# Altium schematic symbol library MF-TRANSISTORS.SchLib: 5 symbols
Pins are listed as number, name and electrical type; pins without a type are passive.

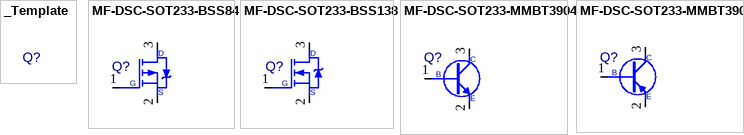
[diagram p0: symbols _Template to MF-DSC-SOT233-MMBT3906]

## _Template
designator Q?  (value not drawn)
Type: *; Operating Temperature Range: *; Continous Drain Current (Id): *; Power Rating: *; RoHS: *; Drain-Source Voltage (Vds): *; Drain-Source Resistance (Rds ON): *; Package: *; ComponentLink1Description: Datasheet; ComponentLink1URL: *; ComponentLink2Description: Supplier Link 1; ComponentLink2URL: *; Supplier 1: Macrofab; Supplier Part Number 1: *; Manufacturer 1: *; Manufacturer Part Number 1: *; Gate-Source Voltage (Vgs): *; Transistor Polarity: *

## MF-DSC-SOT233-BSS84
designator Q?  (value not drawn)
Mosfet SOT-23-3 P-Channel Logic Level; Manufacturer 1: Nexperia; Manufacturer Part Number 1: BSS84,215; Type: General Purpose Logic Level FET; Continous Drain Current (Id): 130mA; Power Rating: 250 mW; Drain-Source Voltage (Vds): -50V; Drain-Source Resistance (Rds ON): 6 Ohms; Gate-Source Voltage (Vgs): 20V; Operating Temperature Range: - 55 C to + 150 C; RoHS: Compliant; Package: SOT-23-3; ComponentLink1Description: Datasheet; ComponentLink1URL: https://s3.amazonaws.com/devpublic1/datasheets/BSS84-351729.pdf; ComponentLink2Description: Supplier Link 1; ComponentLink2URL: https://factory.macrofab.com/part/MF-DSC-SOT233-BSS84; Supplier 1: Macrofab; Supplier Part Number 1: MF-DSC-SOT233-BSS84; Transistor Polarity: P-Channel
footprint SOT-23-3 (SOT23, 3-Leads, Body 2.90x2.35mm, Pitch 0.95mm, IPC Medium Density)
pins: 1 G "Gate", 2 S "Source", 3 D "Drain"

## MF-DSC-SOT233-BSS138
designator Q?  (value not drawn)
Mosfet SOT-23-3 N-Channel Logic Level; Manufacturer 1: Onsemi; Manufacturer Part Number 1: BSS138; Type: General Purpose Logic Level FET; Continous Drain Current (Id): 220mA; Power Rating: 360 mW; Drain-Source Voltage (Vds): 50V; Drain-Source Resistance (Rds ON): 3.5 Ohms; Gate-Source Voltage (Vgs): 20V; Operating Temperature Range: - 55 C to + 150 C; RoHS: Compliant; Package: SOT-23-3; ComponentLink1Description: Datasheet; ComponentLink1URL: https://s3.amazonaws.com/devpublic1/datasheets/BSS138-39381.pdf; ComponentLink2Description: Supplier Link 1; ComponentLink2URL: https://factory.macrofab.com/part/MF-DSC-SOT233-BSS138; Supplier 1: Macrofab; Supplier Part Number 1: MF-DSC-SOT233-BSS138; Transistor Polarity: N-Channel
footprint SOT-23-3 (SOT23, 3-Leads, Body 2.90x2.35mm, Pitch 0.95mm, IPC Medium Density)
pins: 1 G "Gate", 2 S "Source", 3 D "Drain"

## MF-DSC-SOT233-MMBT3904
designator Q?  (value not drawn)
BJT Transistor SOT-23-3 NPN General Purpose; Manufacturer 1: Onsemi; Manufacturer Part Number 1: MMBT3904L; Type: General Purpose Transistors BJT; MAX Collector Current: 0.2 A; Power Rating: 225 mW; Emitter - Base Voltage: 6V; Collector- Emitter Saturation Voltage: 0.3V; Collector - Base Voltage: 60V; Collector - Emitter Voltage: 40V; Value: 18000; Operating Temperature Range: - 55 C to + 150 C; RoHS: Compliant; Package: SOT-23-3; ComponentLink1Description: Datasheet; ComponentLink1URL: https://s3.amazonaws.com/devpublic1/datasheets/MMBT3904LT1-D-113169.pdf; ComponentLink2Description: Supplier Link 1; ComponentLink2URL: https://factory.macrofab.com/part/MF-DSC-SOT233-MMBT3904; Supplier 1: Macrofab; Supplier Part Number 1: MF-DSC-SOT233-MMBT3904; Transistor Polarity: NPN
footprint SOT-23-3 (SOT23, 3-Leads, Body 2.90x2.35mm, Pitch 0.95mm, IPC Medium Density)
pins: 1 B "Base", 2 E "Emitter", 3 C "Collector"

## MF-DSC-SOT233-MMBT3906
designator Q?  (value not drawn)
BJT Transistor SOT-23-3 PNP General Purpose; Manufacturer 1: Onsemi; Manufacturer Part Number 1: MMBT3906L; Type: General Purpose Transistors BJT; Power Rating: 225 mW; Collector - Base Voltage: -40V; Collector- Emitter Saturation Voltage: -0.4V; Emitter - Base Voltage: 5V; MAX Collector Current: 0.2 A; Operating Temperature Range: - 55 C to + 150 C; RoHS: Compliant; Package: SOT-23-3; ComponentLink1Description: Datasheet; ComponentLink1URL: https://s3.amazonaws.com/devpublic1/datasheets/MMBT3906LT1-D-112192.pdf; ComponentLink2Description: Supplier Link 1; ComponentLink2URL: https://factory.macrofab.com/part/MF-DSC-SOT233-MMBT3906; Supplier 1: Macrofab; Supplier Part Number 1: MF-DSC-SOT233-MMBT3906; Transistor Polarity: PNP; Collector - Emitter Voltage: -40V
footprint SOT-23-3 (SOT23, 3-Leads, Body 2.90x2.35mm, Pitch 0.95mm, IPC Medium Density)
pins: 1 B "Base", 2 E "Emitter", 3 C "Collector"